# Altium schematic symbol library MM5130_SCHSYM.SCHLIB: 1 symbol
Pins are listed as number, name and electrical type; pins without a type are passive.

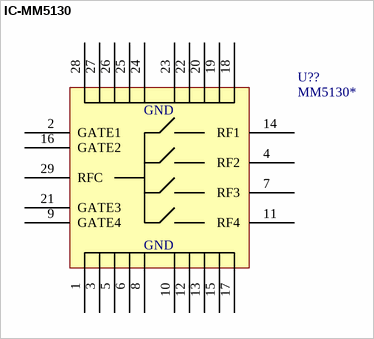
[diagram p0: symbol IC-MM5130]

## IC-MM5130
designator U??, comment MM5130*
High power SP4T MEMs switch
footprint MM5130-NORM_PCB_NOFLOOD
footprint MM5130-SP_M_PCB_NOFLOOD
footprint MM5130-FOOTPRINT_PCB
pins: 1 GND, 2 GATE1, 3 GND, 4 RF2, 5 GND, 6 GND, 7 RF3, 8 GND, 9 GATE4, 10 GND, 11 RF4, 12 GND, 13 GND, 14 RF1, 15 GND, 16 GATE2, 17 GND, 18 GND, 19 GND, 20 GND, 21 GATE3, 22 GND, 23 GND, 24 GND, 25 GND, 26 GND, 27 GND, 28 GND, 29 RFC